# Altium schematic symbol library Quartz.SchLib: 3 symbols
Pins are listed as number, name and electrical type; pins without a type are passive.

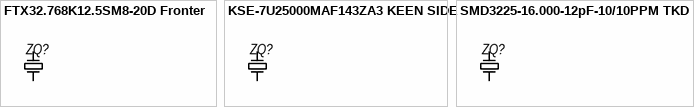
[diagram p0: symbols FTX32.768K12.5SM8-20D Fronter to SMD3225-16.000-12pF-10/10PPM TKD]

## FTX32.768K12.5SM8-20D Fronter
designator ZQ?  (value not drawn)
Кварц часовой 32768 Гц; Partnumber: =Identifier
footprint FTX32.768K12.5SM8-20D
pins: 1, 4

## KSE-7U25000MAF143ZA3 KEEN SIDE
designator ZQ?, comment 25MHz  (value not drawn)
Partnumber: =Identifier
footprint QSMD3.2x2.5
pins: 1, 3

## SMD3225-16.000-12pF-10/10PPM TKD
designator ZQ?, comment 16MHz  (value not drawn)
Partnumber: SMD3225-16.000-12pF-10/10PPM TKD
footprint QSMD3.2x2.5
pins: 1, 3